# Altium schematic symbol library SMA.SchLib: 1 symbol
Pins are listed as number, name and electrical type; pins without a type are passive.

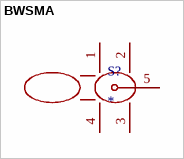
[diagram p0: symbol BWSMA]

## BWSMA
designator S?
footprint BWSMA
pins: 1, 2, 3, 4, 5